# EAGLE library part 691401700021 (library Wuerth_Elektronik_eiCan_Terminal_Blocks_v2.0)
WR-TBL Serie 401 - 5.0mm Screwless Vertikal Entry - 2 mm2 Wires, 21 Pins
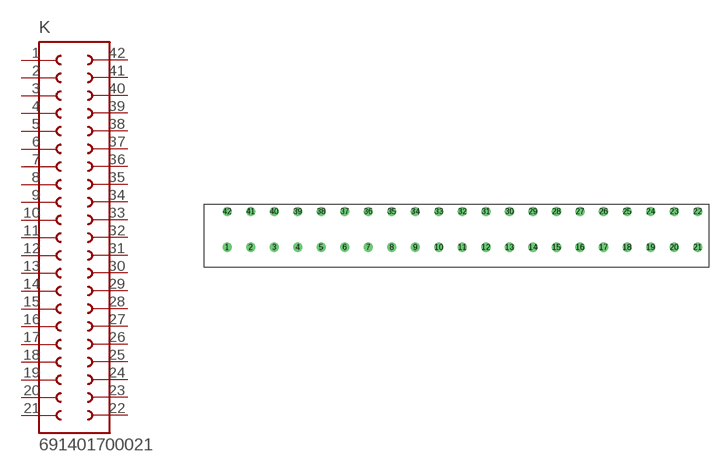
[diagram p277: symbol with the pads of 691401700021; footprint 691401700021]

Designator prefix K

## 691401700021  [691401700021]
1  1  pas
2  2  pas
3  3  pas
4  4  pas
5  5  pas
6  6  pas
7  7  pas
8  8  pas
9  9  pas
10  10  pas
11  11  pas
12  12  pas
13  13  pas
14  14  pas
15  15  pas
16  16  pas
17  17  pas
18  18  pas
19  19  pas
20  20  pas
21  21  pas
22  22  pas
23  23  pas
24  24  pas
25  25  pas
26  26  pas
27  27  pas
28  28  pas
29  29  pas
30  30  pas
31  31  pas
32  32  pas
33  33  pas
34  34  pas
35  35  pas
36  36  pas
37  37  pas
38  38  pas
39  39  pas
40  40  pas
41  41  pas
42  42  pas

## Footprint 691401700021 (pad centres in mm)
WR-TBL Serie 401 - 5.0mm Screwless Vertikal Entry - 2 mm2 Wires, 21 Pins
drill 1.3 round: 1 -10,0; 2 -5,0; 3 0,0; 4 5,0; 5 10,0; 6 15,0; 7 20,0; 8 25,0; 9 30,0; 10 35,0; 11 40,0; 12 45,0; 13 50,0; 14 55,0; 15 60,0; 16 65,0; 17 70,0; 18 75,0; 19 80,0; 20 85,0; 21 90,0; 22 90,7.62; 23 85,7.62; 24 80,7.62; 25 75,7.62; 26 70,7.62; 27 65,7.62; 28 60,7.62; 29 55,7.62; 30 50,7.62; 31 45,7.62; 32 40,7.62; 33 35,7.62; 34 30,7.62; 35 25,7.62; 36 20,7.62; 37 15,7.62; 38 10,7.62; 39 5,7.62; 40 0,7.62; 41 -5,7.62; 42 -10,7.62